# Altium schematic symbol library IC. Charge.SchLib: 1 symbol
Pins are listed as number, name and electrical type; pins without a type are passive.

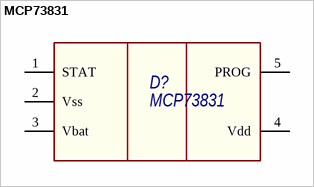
[diagram p0: symbol MCP73831]

## MCP73831
designator D?
footprint SOT23-5 (pitch 0.95 mm)
pins: 1 STAT, 2 Vss, 3 Vbat, 4 Vdd, 5 PROG